# EAGLE library part COMPUTE-MODULE_EDGE-LIBRARY_L836-1J1T-43_L836-1J1T-43 (library ExportCompute Module)
1X1 | GIGABIT | Tab Down | Low Profile | With LED
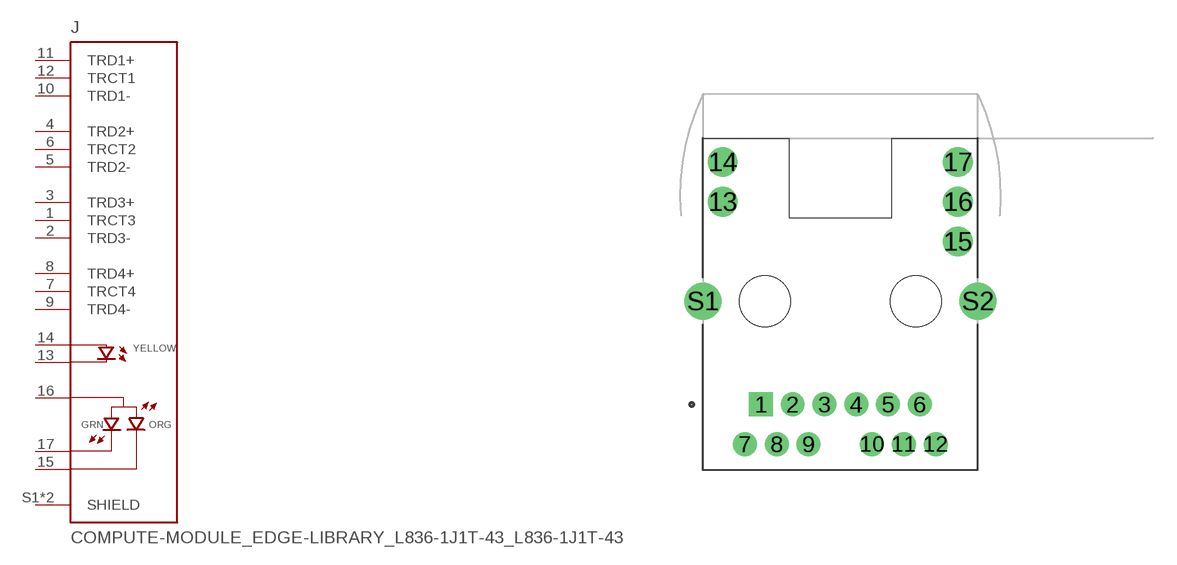
[diagram p4: symbol with the pads of COMPUTE-MODULE_EDGE-LIBRARY_L836-1J1T-43_BEL_L836-1J1T-43; footprint COMPUTE-MODULE_EDGE-LIBRARY_L836-1J1T-43_BEL_L836-1J1T-43]

Designator prefix J

## COMPUTE-MODULE_EDGE-LIBRARY_L836-1J1T-43_L836-1J1T-43 (DIGIKEY: 507-2236-ND; MANUFACTURER: Bel Magnetic Solutions; MPN: L836-1J1T-43)  [COMPUTE-MODULE_EDGE-LIBRARY_L836-1J1T-43_BEL_L836-1J1T-43]
1  TRCT3  pas
2  TRD3-  pas
3  TRD3+  pas
4  TRD2+  pas
5  TRD2-  pas
6  TRCT2  pas
7  TRCT4  pas
8  TRD4+  pas
9  TRD4-  pas
10  TRD1-  pas
11  TRD1+  pas
12  TRCT1  pas
13  13  pas
14  14  pas
15  15  pas
16  16  pas
17  17  pas
S1  SHIELD  pas
S2  SHIELD  pas

## Footprint COMPUTE-MODULE_EDGE-LIBRARY_L836-1J1T-43_BEL_L836-1J1T-43 (pad centres in mm)
drill 1.02 square: 1 -5.08,-6.604
drill 1.02: 2 -3.048,-6.604; 3 -1.016,-6.604; 4 1.016,-6.604; 5 3.048,-6.604; 6 5.08,-6.604; 7 -6.096,-9.144; 8 -4.064,-9.144; 9 -2.032,-9.144; 10 2.032,-9.144; 11 4.064,-9.144; 12 6.096,-9.144
drill 1.27: 13 -7.518,6.35; 14 -7.518,8.89; 15 7.518,3.81; 16 7.518,6.35; 17 7.518,8.89
drill 1.57: S1 -8.788,0; S2 8.788,0
hole 3.251 at -4.826,0
hole 3.251 at 4.826,0